# Altium schematic symbol library dc_mini_fan_controller.SchLib: 2 symbols
Pins are listed as number, name and electrical type; pins without a type are passive.

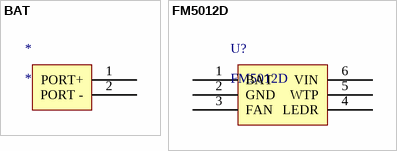
[diagram p0: symbols BAT to FM5012D]

## BAT
designator *
footprint BAT
pins: 1 PORT+, 2 PORT -

## FM5012D
designator U?
SOT23-6
footprint FM5012D (DC mini fan controller ic)
pins: 1 BAT, 2 GND, 3 FAN, 4 LEDR, 5 WTP, 6 VIN